# Altium footprint library MLACH0_9.PCBLIB: 97 footprints (part 1 of 7)
Each footprint in its own frame and in the unit in brackets; x right, y up, seen from the top. Pads: shape width x height; smd on the part's side, far side on the other; paste and mask are expansions set on the pad; w line width, h text height; cw(c..) or ccw(c..) is an arc to the next point about the centre after c.
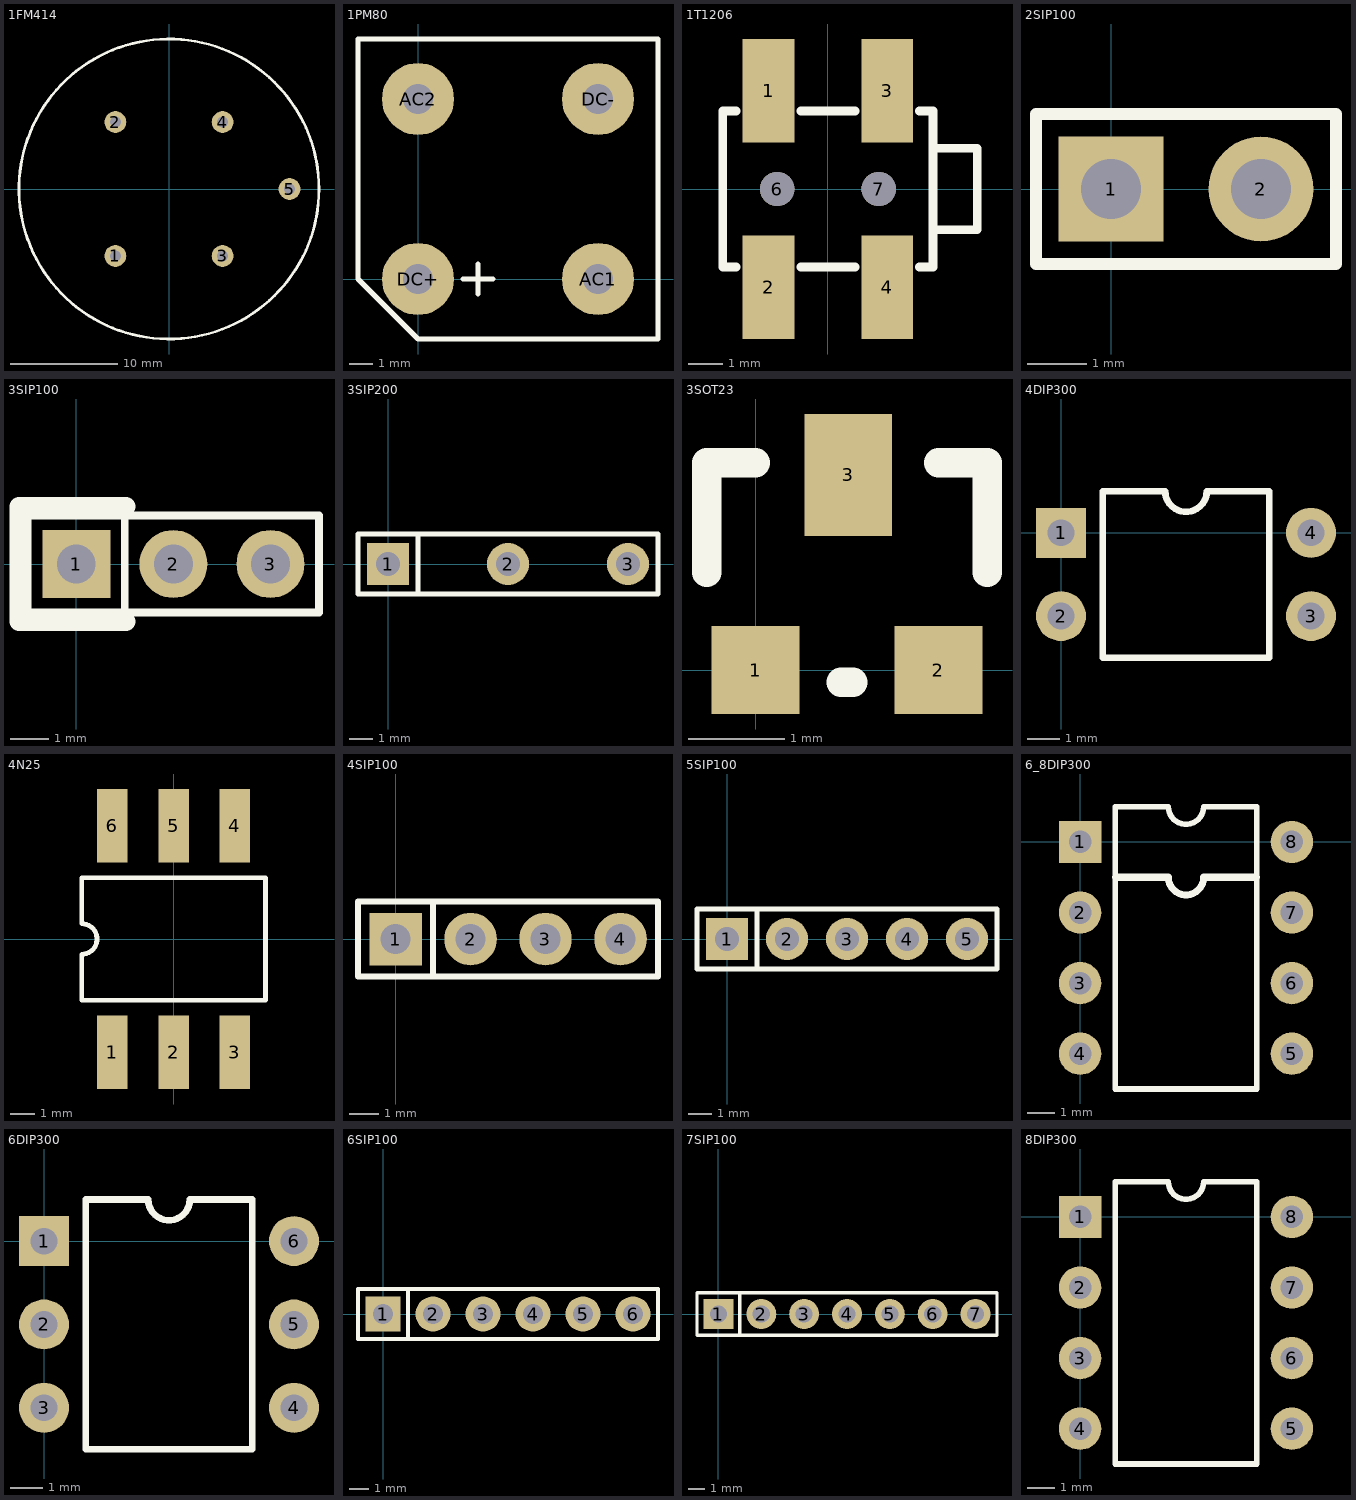
[diagram p0: the footprints below, top view; thin cyan lines are the x and y axes]

## 1FM414 [mil]
pads (5):
  round 80 hole 40: 1(-196.85,-246.06) 2(-196.85,246.06) 3(196.85,-246.06) 4(196.85,246.06) 5(442.91,0)
TopOverlay:
  circle w10: c0,0 r551.18

## 1PM80 [mil]
pads (4):
  round 120 hole 50: AC1(300,0) AC2(0,300) DC+(0,0) DC-(300,300)
TopOverlay:
  lines w8: 75,0 125,0 ; 100,-25 100,25 ; -100,0 0,-100 400,-100 400,400 -100,400 -100,0

## 1T1206 [mil]
pads (6):
  rect 60x120 smd: 1(-68.9,114.17) 2(-68.9,-114.17) 3(68.9,114.17) 4(68.9,-114.17)
  round 40 hole 40: 6(-59.06,0) 7(59.06,0)
TopOverlay:
  lines w10: -106.3,-90.55 -122.05,-90.55 -122.05,90.55 -106.3,90.55 ; -31.5,-90.55 31.5,-90.55 ; -31.5,90.55 31.5,90.55 ; 106.3,-90.55 122.05,-90.55 122.05,90.55 106.3,90.55 ; 122.05,-47.24 173.23,-47.24 173.23,47.24 122.05,47.24

## 2SIP100 [mil]
pads (2):
  rect 70x70 hole 40: 1(0,0)
  round 70 hole 40: 2(100,0)
TopOverlay:
  lines w8: -50,-50 150,-50 150,50 -50,50 -50,-50

## 3SIP100 [mil]
pads (3):
  rect 70x70 hole 40: 1(0,0)
  round 70 hole 40: 2(100,0) 3(200,0)
TopOverlay:
  lines w8: 50,-50 50,50 ; -50,-50 -50,50 250,50 250,-50 -50,-50
  lines w19.68: 51.18,-59.06 -59.06,-59.06 -59.06,59.06 51.18,59.06

## 3SIP200 [mil]
pads (3):
  rect 70x70 hole 40: 1(0,0)
  round 70 hole 40: 2(200,0) 3(400,0)
TopOverlay:
  lines w8: 50,-50 50,50 ; -50,-50 -50,50 450,50 450,-50 -50,-50

## 3SOT23 [mil]
pads (3):
  rect 36x36 smd: 1(0,0) 2(75,0)
  rect 36x50 smd: 3(38,80)
TopOverlay:
  lines w12: -20,40 -20,85 0,85 ; 35,-5 40,-5 ; 75,85 95,85 95,40

## 4DIP300 [mil]
pads (4):
  rect 60x60 hole 32: 1(0,0)
  round 60 hole 32: 2(0,-100) 3(300,-100) 4(300,0)
TopOverlay:
  lines w8: 50,-150 250,-150 250,50 175,50 cw(c150,50) 125,50 50,50 50,-150

## 4N25 [mil]
pads (6):
  rect 50x120 smd: 1(-100,-185) 2(0,-185) 3(100,-185) 4(100,185) 5(0,185) 6(-100,185)
TopOverlay:
  lines w8: -150,-100 150,-100 150,100 -150,100 -150,25 cw(c-150,0) -150,-25 -150,-100

## 4SIP100 [mil]
pads (4):
  rect 70x70 hole 40: 1(0,0)
  round 70 hole 40: 2(100,0) 3(200,0) 4(300,0)
TopOverlay:
  lines w8: 50,-50 50,50 ; -50,-50 350,-50 350,50 -50,50 -50,-50
3D body: height 100, standoff 0, extent -50,-50 350.39,50
3D body: height 336.22, standoff -118.11, extent -12.6,-12.6 12.6,12.6
3D body: height 336.22, standoff -118.11, extent 87.4,-12.6 112.6,12.6
3D body: height 336.22, standoff -118.11, extent 187.4,-12.6 212.6,12.6
3D body: height 336.22, standoff -118.11, extent 287.4,-12.6 312.6,12.6

## 5SIP100 [mil]
pads (5):
  rect 70x70 hole 40: 1(0,0)
  round 70 hole 40: 2(100,0) 3(200,0) 4(300,0) 5(400,0)
TopOverlay:
  lines w8: 50,-50 50,50 ; -50,-50 450,-50 450,50 -50,50 -50,-50
3D body: height 336.22, standoff -118.11, extent 387.4,-12.6 412.6,12.6
3D body: height 336.22, standoff -118.11, extent 287.4,-12.6 312.6,12.6
3D body: height 336.22, standoff -118.11, extent 187.4,-12.6 212.6,12.6
3D body: height 336.22, standoff -118.11, extent 87.4,-12.6 112.6,12.6
3D body: height 336.22, standoff -118.11, extent -12.6,-12.6 12.6,12.6
3D body: height 100, standoff 0, extent -50,-50 450,50

## 6_8DIP300 [mil]
pads (8):
  rect 60x60 hole 32: 1(0,0)
  round 60 hole 32: 2(0,-100) 3(0,-200) 4(0,-300) 5(300,-300) 6(300,-200) 7(300,-100) 8(300,0)
TopOverlay:
  lines w8: 50,-350 50,50 125,50 ccw(c150,50) 175,50 250,50 250,-350 50,-350
  lines w10: 50,-50 125,-50 ccw(c150,-50) 175,-50 250,-50

## 6DIP300 [mil]
pads (6):
  rect 60x60 hole 32: 1(0,0)
  round 60 hole 32: 2(0,-100) 3(0,-200) 4(300,-200) 5(300,-100) 6(300,0)
TopOverlay:
  lines w8: 50,-250 250,-250 250,50 175,50 cw(c150,50) 125,50 50,50 50,-250

## 6SIP100 [mil]
pads (6):
  rect 70x70 hole 40: 1(0,0)
  round 70 hole 40: 2(100,0) 3(200,0) 4(300,0) 5(400,0) 6(500,0)
TopOverlay:
  lines w8: 50,-50 50,50 ; -50,-50 550,-50 550,50 -50,50 -50,-50

## 7SIP100 [mil]
pads (7):
  rect 70x70 hole 40: 1(0,0)
  round 70 hole 40: 2(100,0) 3(200,0) 4(300,0) 5(400,0) 6(500,0) 7(600,0)
TopOverlay:
  lines w8: 50,-50 50,50 ; -50,-50 650,-50 650,50 -50,50 -50,-50

## 8DIP300 [mil]
pads (8):
  rect 60x60 hole 32: 1(0,0)
  round 60 hole 32: 2(0,-100) 3(0,-200) 4(0,-300) 5(300,-300) 6(300,-200) 7(300,-100) 8(300,0)
TopOverlay:
  lines w8: 50,-350 250,-350 250,50 175,50 cw(c150,50) 125,50 50,50 50,-350